# EAGLE library part 929870-01-09_1 (library 3M_929852_Connector)
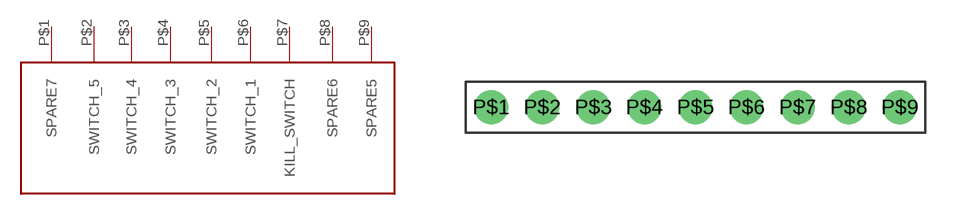
[diagram p0: symbol with the pads of 929852-01-09_1ROW; footprint 929852-01-09_1ROW]

Designator prefix -

## 929870-01-09_1  [929852-01-09_1ROW]
P$1  SPARE7
P$2  SWITCH_5
P$3  SWITCH_4
P$4  SWITCH_3
P$5  SWITCH_2
P$6  SWITCH_1
P$7  KILL_SWITCH
P$8  SPARE6
P$9  SPARE5

## Footprint 929852-01-09_1ROW (pad centres in mm)
drill 0.889 pad 1.676: P$1 1.27,1.27; P$2 3.81,1.27; P$3 6.35,1.27; P$4 8.89,1.27; P$5 11.43,1.27; P$6 13.97,1.27; P$7 16.51,1.27; P$8 19.05,1.27; P$9 21.59,1.27